# EAGLE library part MDM-25PBSP (library MDM-25PBSP)
D-Sub Micro-D Connectors MICRO 25 M PC JACKP Source: Datasheet <https://ittcannon.canto.com/direct/document/863c6k08rd7hd54715eqt9le2o/tZR72R4vbF_tKN-i-3jkBf1AQkY/original?content-type=application/pdf&name=ITT-Cannon-Microminiature-Connectors-Catalog.pdf>
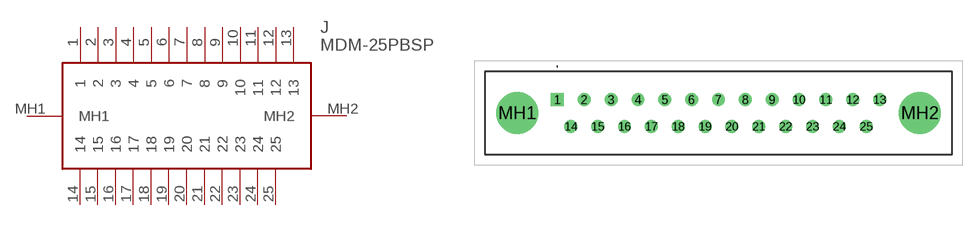
[diagram p0: symbol with the pads of MDM25PBSP; footprint MDM25PBSP]

Designator prefix J

## MDM-25PBSP (Description: D-Sub Micro-D Connectors MICRO 25 M PC JACKP; Height: 13.74mm; Manufacturer_Name: ITT CANNON; Manufacturer_Part_Number: MDM-25PBSP; Mouser_Part_Number: 965-MDM-25PBSP; Mouser_Price-Stock: https://www.mouser.co.uk/ProductDetail/ITT-Cannon/MDM-25PBSP?qs=%2FPVulymFwT3mrCwbZuIR5w%3D%3D)  [MDM25PBSP]
1  1
2  2
3  3
4  4
5  5
6  6
7  7
8  8
9  9
10  10
11  11
12  12
13  13
14  14
15  15
16  16
17  17
18  18
19  19
20  20
21  21
22  22
23  23
24  24
25  25
MH1  MH1
MH2  MH2

## Footprint MDM25PBSP (pad centres in mm)
MDM-25PBSP-1
drill 0.711 pad 1.219 square: 1 0,0
drill 0.711 pad 1.219: 2 2.54,0; 3 5.08,0; 4 7.62,0; 5 10.16,0; 6 12.7,0; 7 15.24,0; 8 17.78,0; 9 20.32,0; 10 22.86,0; 11 25.4,0; 12 27.94,0; 13 30.48,0; 14 1.27,-2.54; 15 3.81,-2.54; 16 6.35,-2.54; 17 8.89,-2.54; 18 11.43,-2.54; 19 13.97,-2.54; 20 16.51,-2.54; 21 19.05,-2.54; 22 21.59,-2.54; 23 24.13,-2.54; 24 26.67,-2.54; 25 29.21,-2.54
drill 2.64 pad 3.96: MH1 -3.81,-1.27; MH2 34.29,-1.27